# Altium footprint library open-rally-computer.PcbLib: 13 footprints
Each footprint in its own frame and in the unit in brackets; x right, y up, seen from the top. Pads: shape width x height; smd on the part's side, far side on the other; paste and mask are expansions set on the pad; w line width, h text height; cw(c..) or ccw(c..) is an arc to the next point about the centre after c.
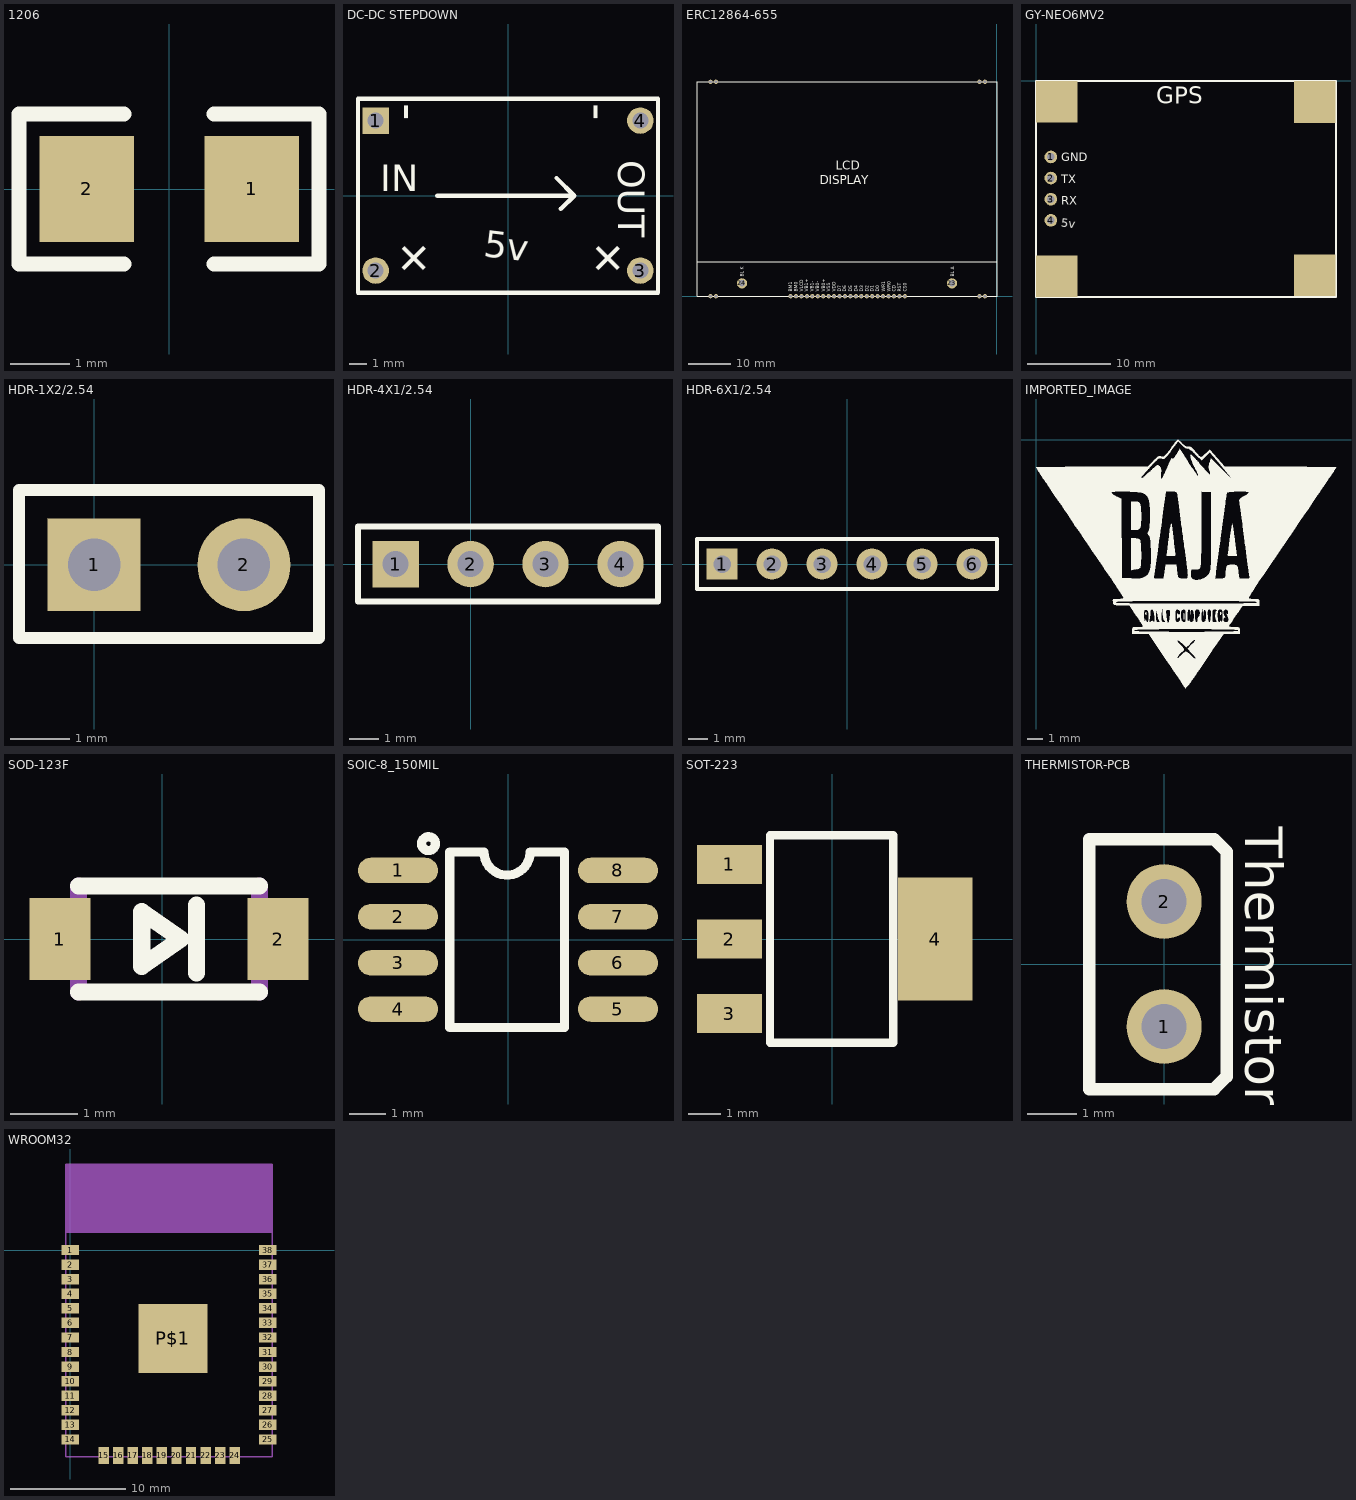
[diagram p0: the footprints below, top view; thin cyan lines are the x and y axes]

## 1206 [mil]
pads (2):
  rect 63x70.9 smd: 1(55.05,0.05) 2(-54.95,0.05)
Top Overlay:
  lines w10: -30,-50 -100,-50 -100,50 -30,50 ; 30,-50 100,-50 100,50 30,50

## DC-DC STEPDOWN [mil]
pads (4):
  rect 60x60 hole 36: 1(-300,170)
  round 60 hole 36: 2(-300,-170) 3(300,-170) 4(300,170)
Top Overlay:
  lines w10: -160,0 150,0 ; 110,40 150,0 ; 120,-30 150,0 ; -340,-220 340,-220 340,220 -340,220 -340,-220
  text "IN" at -290,10 h60
  text "OUT" at 250,80 h60
  text "+" at 218.28,-198.28 h80
  text "-" at 230,170 h80
  text "-" at -200,170 h80
  text "+" at -221.72,-198.28 h80
  text "5v" at -57.56,-137.48 h60

## ERC12864-655 [mm]
pads (32):
  round 1 hole 0.65: 1(-21.499,-0.001) 2(-22.769,-0.001) 3(-24.039,-0.001) 4(-25.309,-0.001) 5(-26.579,-0.001) 6(-27.849,-0.001) 7(-29.119,-0.001) 8(-30.389,-0.001) 9(-31.659,-0.001) 10(-32.929,-0.001) 11(-34.199,-0.001) 12(-35.469,-0.001) 13(-36.739,-0.001) 14(-38.009,-0.001) 15(-39.279,-0.001) 16(-40.549,-0.001) 17(-41.819,-0.001) 18(-43.089,-0.001) 19(-44.359,-0.001) 20(-45.629,-0.001) 21(-46.899,-0.001) 22(-48.169,-0.001) ""(-66.848,-0.001) ""(-66.848,50.037) ""(-65.568,-0.001) ""(-65.568,50.037) ""(-4.11,50.037) ""(-4.11,-0.001) ""(-2.83,-0.001) ""(-2.83,50.037)
  round 2.4 hole 1.5: 23(-10.499,2.999) 24(-59.499,2.999)
Top Overlay:
  lines w0.254: -69.999,7.999 0.001,7.999 ; -69.999,-0.001 0.001,-0.001 0.001,49.999 -69.999,49.999 -69.999,-0.001
  text "BL A" at -9.927,4.5 h0.8
  text "BL K" at -59.098,4.499 h0.8
  text "BM1" at -47.827,1.1 h0.8
  text "BM0" at -46.527,1.1 h0.8
  text "VLCD" at -45.227,1.1 h0.8
  text "VB1+" at -44.027,1.1 h0.8
  text "VB1-" at -42.727,1.1 h0.8
  text "VB0-" at -41.427,1.1 h0.8
  text "VB0+" at -40.127,1.1 h0.8
  text "VSS" at -38.927,1.1 h0.8
  text "VDD" at -37.627,1.1 h0.8
  text "D7" at -36.327,1.1 h0.8
  text "D6" at -35.127,1.1 h0.8
  text "D5" at -33.827,1.1 h0.8
  text "D4" at -32.527,1.1 h0.8
  text "D3" at -31.227,1.1 h0.8
  text "D2" at -29.927,1.1 h0.8
  text "D1" at -28.727,1.1 h0.8
  text "D0" at -27.427,1.1 h0.8
  text "WR1" at -26.127,1.1 h0.8
  text "WR0" at -24.827,1.1 h0.8
  text "CD" at -23.627,1.1 h0.8
  text "RST" at -22.327,1.1 h0.8
  text "CS0" at -21.027,1.1 h0.8
  text "LCD" at -37.645,29.499 h2.03
  text "DISPLAY" at -41.319,26.07 h2.03

## GY-NEO6MV2 [mil]
pads (8):
  round 60 hole 36: 1(70.08,-360.06) 2(70.08,-460.06) 3(70.08,-560.06) 4(70.08,-660.06)
  rect 196.85x196.85 smd: ""(98.3,-925.15) ""(98.5,-98.5) ""(1320,-920.05) ""(1320.05,-100)
Top Overlay:
  lines w10: 0,-1023.62 1420,-1023.62 1420,0 0,0 0,-1023.62
  text "GPS" at 569.97,-108.61 h80
  text "GND" at 119.9,-381.19 h39.37
  text "TX" at 119.9,-483.99 h39.37
  text "RX" at 119.9,-586.78 h39.37
  text "5v" at 117.5,-689.44 h39.37

## HDR-1X2/2.54 [mil]
pads (2):
  rect 62x62 hole 35: 1(0,0)
  round 62 hole 35: 2(100,0)
Top Overlay:
  lines w8: -50,-49 -50,50 150,50 150,-49 -50,-49

## HDR-4X1/2.54 [mil]
pads (4):
  rect 62x62 hole 35: 1(-100,0)
  round 62 hole 35: 2(0,0) 3(100,0) 4(200,0)
Top Overlay:
  lines w7.99: -75,50 250,50
  lines w8: -75,50 -150,50 -150,-50 250,-50 250,50

## HDR-6X1/2.54 [mil]
pads (6):
  rect 62x62 hole 35: 1(-250,0)
  round 62 hole 35: 2(-150,0) 3(-50,0) 4(50,0) 5(150,0) 6(250,0)
Top Overlay:
  lines w7.99: -225,50 300,50
  lines w8: -225,50 -300,50 -300,-50 300,-50 300,50

## IMPORTED_IMAGE [mil]
Top Overlay:
  drawing of 8 lines, arcs and shapes, not listed

## SOD-123F [mil]
pads (2):
  rect 35.8x48 smd: 1(-60,0) 2(68,0)
Top Overlay:
  lines w10: -49,-31 57,-31 ; -49,31 57,31 ; 20,-20 20,20 ; -12,-16 -12,16 11,0 -12,-16
Mechanical 15:
  lines w10: -49,-31 -49,31 ; 57,-31 57,31

## SOIC-8_150MIL [mm]
pads (8):
  oval 2.2x0.7 smd: 1(-3.023,1.905) 2(-3.023,0.635) 3(-3.023,-0.635) 4(-3.023,-1.905) 5(3.023,-1.905) 6(3.023,-0.635) 7(3.023,0.635) 8(3.023,1.905)
Top Overlay:
  circle w0.254: c-2.184,2.642 r0.191
  lines w0.254: -1.6,-2.413 1.549,-2.413 1.549,2.413 0.61,2.413 cw(c-0.025,2.413) -0.66,2.413 -1.6,2.413 -1.6,-2.413

## SOT-223 [mm]
pads (4):
  rect 2x1.2 smd: 1(-3.175,2.3) 2(-3.175,0) 3(-3.175,-2.3)
  rect 2.3x3.8 smd: 4(3.175,0)
Top Overlay:
  lines w0.254: -1.925,-3.2 1.875,-3.2 1.875,3.2 -1.925,3.2 -1.925,-3.2

## THERMISTOR-PCB [mil]
pads (2):
  round 60 hole 36: 1(0,-50) 2(0,50)
Top Overlay:
  lines w10: -60,-100 -60,100 40,100 50,90 50,-90 40,-100 -60,-100
  text "Thermistor" at 65,110 h30

## WROOM32 [mm]
pads (39):
  rect 1.5x0.9 smd: 1(0,0) 2(0,-1.27) 3(0,-2.54) 4(0,-3.81) 5(0,-5.08) 6(0,-6.35) 7(0,-7.62) 8(0,-8.89) 9(0,-10.16) 10(0,-11.43) 11(0,-12.7) 12(0,-13.97) 13(0,-15.24) 14(0,-16.51) 25(17.2,-16.51) 26(17.2,-15.24) 27(17.2,-13.97) 28(17.2,-12.7) 29(17.2,-11.43) 30(17.2,-10.16) 31(17.2,-8.89) 32(17.2,-7.62) 33(17.2,-6.35) 34(17.2,-5.08) 35(17.2,-3.81) 36(17.2,-2.54) 37(17.2,-1.27) 38(17.2,0)
  rect 0.9x1.5 smd: 15(2.901,-17.899) 16(4.171,-17.899) 17(5.441,-17.899) 18(6.711,-17.899) 19(7.981,-17.899) 20(9.251,-17.899) 21(10.521,-17.899) 22(11.791,-17.899) 23(13.061,-17.899) 24(14.331,-17.899)
  rect 6x6 smd: P$1(8.941,-7.7)
Mechanical 15:
  region: -0.4,1.5 17.6,1.5 17.6,7.5 -0.4,7.5
  lines w0.127: -0.4,-18 -0.4,7.5 17.6,7.5 17.6,-18 -0.4,-18